# Altium footprint library PD0810J5050S2HF.pcblib: 1 footprints
Each footprint in its own frame and in the unit in brackets; x right, y up, seen from the top. Pads: shape width x height; smd on the part's side, far side on the other; paste and mask are expansions set on the pad; w line width, h text height; cw(c..) or ccw(c..) is an arc to the next point about the centre after c.
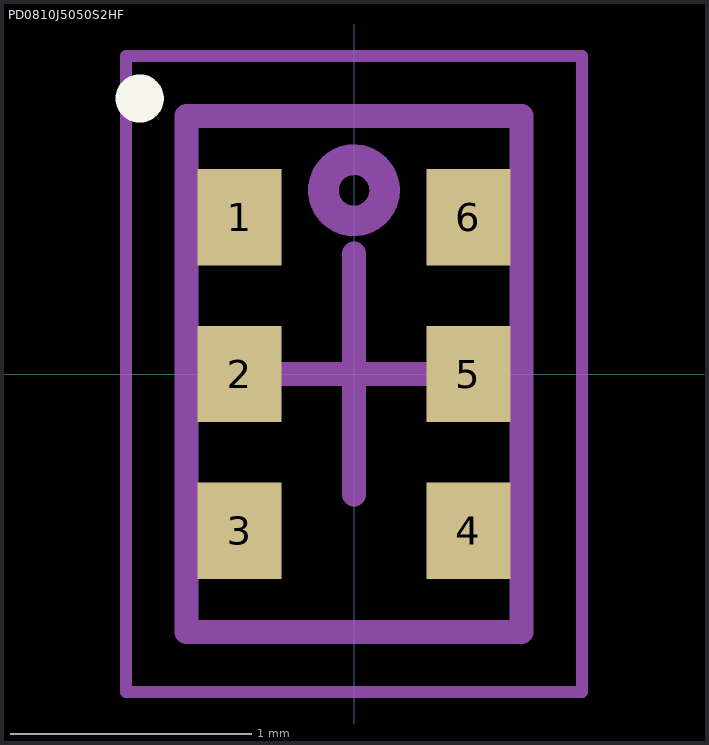
[diagram p0: the footprint, top view; thin cyan lines are the x and y axes]

## PD0810J5050S2HF [mm] "6-Leads, Body 1,29x2,04mm, Pitch 0,65mm, IPC Medium Density"
height 0.55
pads (6):
  rect 0.35x0.4 smd: 1(-0.475,0.65) 2(-0.475,0) 3(-0.475,-0.65) 4(0.475,-0.65) 5(0.475,0) 6(0.475,0.65)
Top Overlay:
  circle w0.1: c-0.889,1.143 r0.05
Mechanical 13:
  circle w0.127: c0,0.762 r0.127
  lines w0.1: -0.695,-1.07 0.695,-1.07 0.695,1.07 -0.695,1.07 -0.695,-1.07
Mechanical 15:
  lines w0.05: -0.945,-1.32 0.945,-1.32 0.945,1.32 -0.945,1.32 -0.945,-1.32
  lines w0.1: -0.5,0 0.5,0 ; 0,-0.5 0,0.5
Mechanical 17:
  text "'.Designator'" at -0.127,0.508 h0.38
Mechanical 19:
  text "'.Comment'" at -0.127,0.508 h0.38
3D body "User Library-B0322J5050AHF.step": height 0.7, standoff -0.01, extent -0.645,-1.02 0.645,1.02